# EAGLE library part TLV2553DW (library microLib)
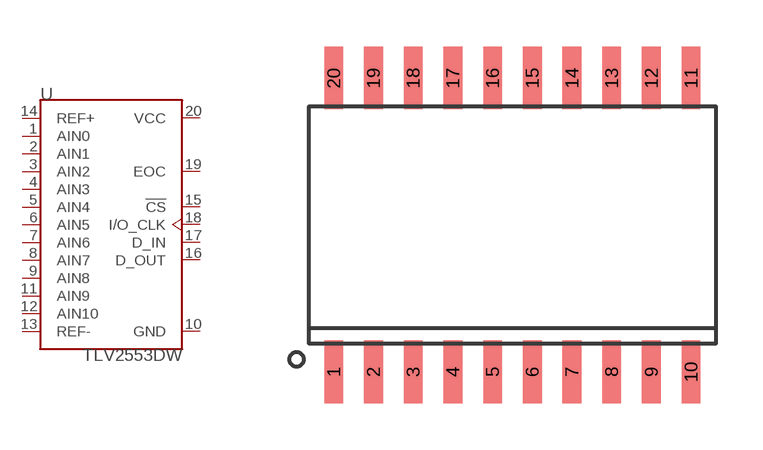
[diagram p20: symbol with the pads of SSOP_20; footprint SSOP_20]

Designator prefix -

## TLV2553DW  [SSOP_20]
1  AIN0
2  AIN1
3  AIN2
4  AIN3
5  AIN4
6  AIN5
7  AIN6
8  AIN7
9  AIN8
10  GND  pwr
11  AIN9
12  AIN10
13  REF-
14  REF+
15  !CS!
16  D_OUT
17  D_IN
18  I/O_CLK
19  EOC
20  VCC  pwr

## Footprint SSOP_20 (pad centres in mm)
smd 0.6 x 2: 1 -5.715,-4.7; 2 -4.445,-4.7; 3 -3.175,-4.7; 4 -1.905,-4.7; 5 -0.635,-4.7; 6 0.635,-4.7; 7 1.905,-4.7; 8 3.175,-4.7; 9 4.445,-4.7; 10 5.715,-4.7; 11 5.715,4.7; 12 4.445,4.7; 13 3.175,4.7; 14 1.905,4.7; 15 0.635,4.7; 16 -0.635,4.7; 17 -1.905,4.7; 18 -3.175,4.7; 19 -4.445,4.7; 20 -5.715,4.7